# EAGLE library part HDMI-TYPE-A-RECEPTICAL (library hdmi)
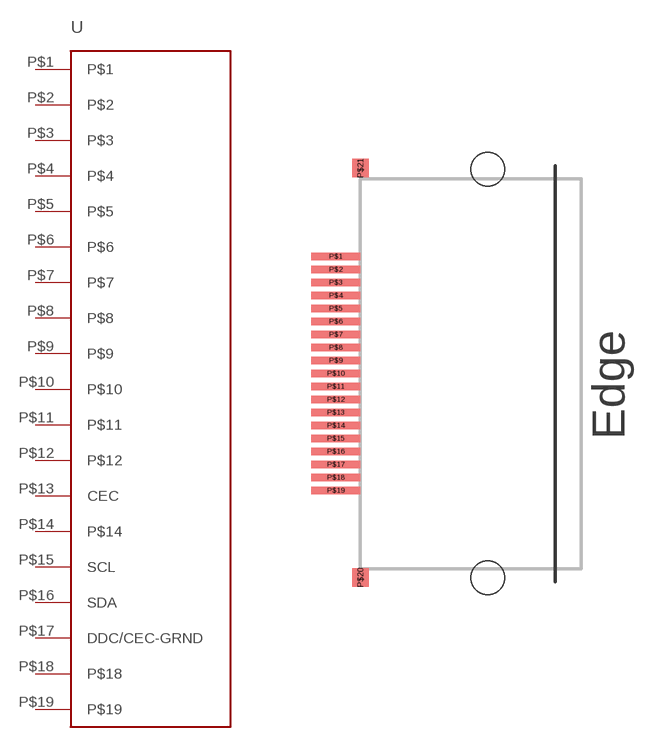
[diagram p0: symbol with the pads of FCI-HDMI-TYPE-A-RECEPT; footprint FCI-HDMI-TYPE-A-RECEPT]

Designator prefix -

## HDMI-TYPE-A-RECEPTICALFCI10029449  [FCI-HDMI-TYPE-A-RECEPT]
P$1  P$1
P$2  P$2
P$3  P$3
P$4  P$4
P$5  P$5
P$6  P$6
P$7  P$7
P$8  P$8
P$9  P$9
P$10  P$10
P$11  P$11
P$12  P$12
P$13  CEC
P$14  P$14
P$15  SCL
P$16  SDA
P$17  DDC/CEC-GRND
P$18  P$18
P$19  P$19

## Footprint FCI-HDMI-TYPE-A-RECEPT (pad centres in mm)
smd 1.9 x 0.3: P$1 -0.95,4.5; P$2 -0.95,4; P$3 -0.95,3.5; P$4 -0.95,3; P$5 -0.95,2.5; P$6 -0.95,2; P$7 -0.95,1.5; P$8 -0.95,1; P$9 -0.95,0.5; P$10 -0.95,0; P$11 -0.95,-0.5; P$12 -0.95,-1; P$13 -0.95,-1.5; P$14 -0.95,-2; P$15 -0.95,-2.5; P$16 -0.95,-3; P$17 -0.95,-3.5; P$18 -0.95,-4; P$19 -0.95,-4.5
smd 0.635 x 0.711: P$20 0,-7.849; P$21 0,7.899
hole 1.3 at 4.9,7.85
hole 1.3 at 4.9,-7.85